# Altium footprint library TSSOP_20.PcbLib: 1 footprints
Each footprint in its own frame and in the unit in brackets; x right, y up, seen from the top. Pads: shape width x height; smd on the part's side, far side on the other; paste and mask are expansions set on the pad; w line width, h text height; cw(c..) or ccw(c..) is an arc to the next point about the centre after c.
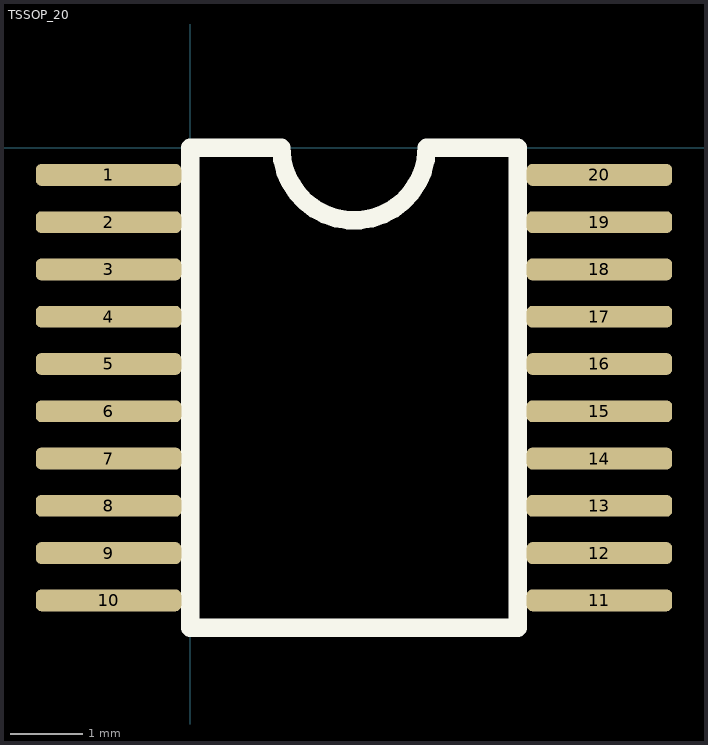
[diagram p0: the footprint, top view; thin cyan lines are the x and y axes]

## TSSOP_20 [mm]
pads (20):
  rrect50% 2x0.3 smd: 1(-1.125,-0.375) 2(-1.125,-1.025) 3(-1.125,-1.675) 4(-1.125,-2.325) 5(-1.125,-2.975) 6(-1.125,-3.625) 7(-1.125,-4.275) 8(-1.125,-4.925) 9(-1.125,-5.575) 10(-1.125,-6.225) 11(5.625,-6.225) 12(5.625,-5.575) 13(5.625,-4.925) 14(5.625,-4.275) 15(5.625,-3.625) 16(5.625,-2.975) 17(5.625,-2.325) 18(5.625,-1.675) 19(5.625,-1.025) 20(5.625,-0.375)
Top Overlay:
  lines w0.254: 0,-6.6 4.5,-6.6 4.5,0 3.25,0 cw(c2.25,0) 1.25,0 0,0 0,-6.6